# Altium schematic symbol library RJ45_SHIELDED_BIPOLAR_LEDS.Schlib: 1 symbol
Pins are listed as number, name and electrical type; pins without a type are passive.

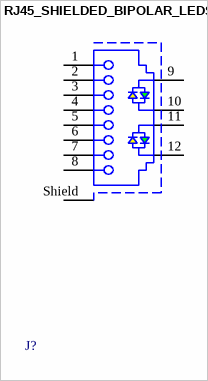
[diagram p0: symbol RJ45_SHIELDED_BIPOLAR_LEDS]

## RJ45_SHIELDED_BIPOLAR_LEDS
designator J?, comment 615008142121  (value not drawn)
Modular Jack  Shielded 8P8C with bipolar LEDs
pins: 1, 2, 3, 4, 5, 6, 7, 8, 9, 10, 11, 12, Shield